# Altium schematic symbol library kmilo17pet-LT_OpAmp_LT2000.SchLib: 1710 symbols (part 52 of 75)
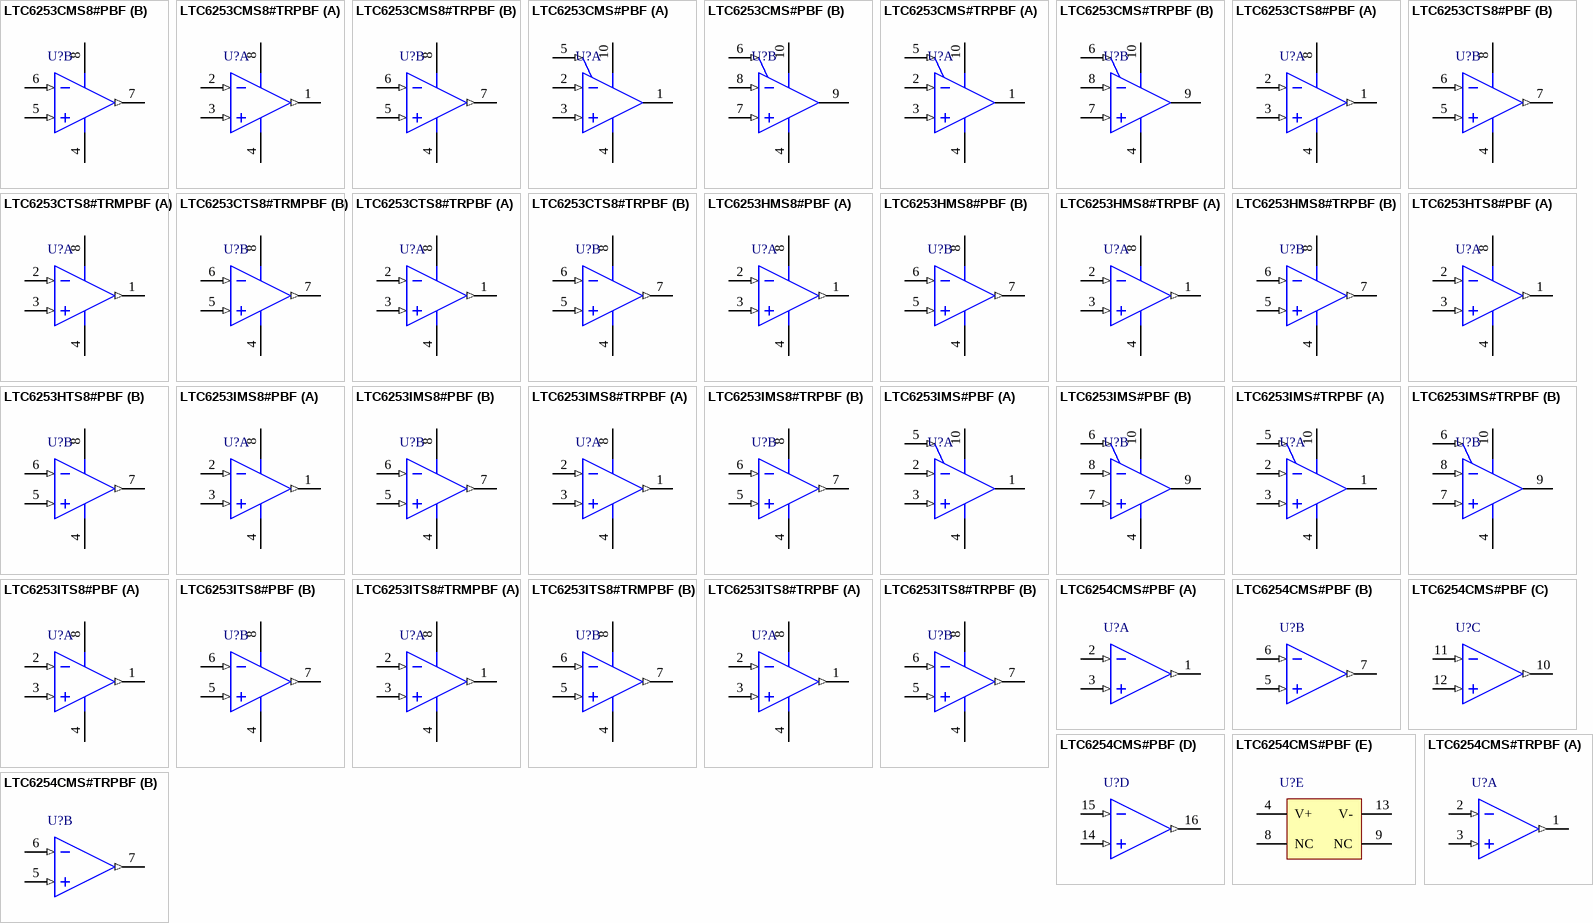
[diagram p131: symbols LTC6253CMS8#PBF to LTC6254CMS#TRPBF]

## LTC6253CMS#TRPBF
designator U?
Dual Channel, Power Efficient Operational Amplifier, RRIO, 720 MHz Typical GBW, 280 V/us Typical SR, 2.5 to 5.25 V, 10-Pin SOP (MS-10), Commercial, Pb-Free, Reel; Linear Technology Part Number: LTC6253; Manufacturer: Linear Technology; PartNumber: LTC6253CMS#TRPBF; Channels (#): 2; GBW (MHz) Typical: 720; Is (mA) Typical: 3.3; SR (V/us) Typical: 280; Vos (mV) Typical: 0.05; Vs Max (V): 5.25; Vs Min (V): 2.5; DatasheetVersion: Rev. C; PackageVersion: Rev E; PackageReference: LT-MS-10; PackageDescription: 10-Lead Plastic MSOP, Body 3 x 3 mm, Pitch 0.5 mm; Supplier 1: Digi-Key; Supplier Part Number 1: LTC6253CMS#TRPBF-ND; Packing: Reel; RoHS: Pb-Free; Type: VFB; Mounting Technology: Surface Mount; ComponentLink1Description: Manufacturer URL; ComponentLink1URL: http://www.linear.com/; ComponentLink2Description: Datasheet; ComponentLink2URL: http://cds.linear.com/docs/en/datasheet/625234fc.pdf; ComponentLink3Description: Package Specification; ComponentLink3URL: http://cds.linear.com/docs/en/packaging/MSOP_10_05-08-1661.pdf
footprint LT-MS-10_N (SOP, 10-Leads, Body 3x3mm, Pitch 0.50mm, IPC Medium Density)
footprint LT-MS-10_L (SOP, 10-Leads, Body 3x3mm, Pitch 0.50mm, IPC High Density)
footprint LT-MS-10_M (SOP, 10-Leads, Body 3x3mm, Pitch 0.50mm, IPC Low Density)
pins on every part: 4 V- (power) "Negative Supply Voltage. Typically 0V. This can be made a negative voltage as long as 2.5V =< (V+ - V-) =< 5.25V.", 10 V+ (power) "Positive Supply Voltage. Total supply voltage ranges from 2.5V to 5.25V"
part A pins: 1 OUT A (hiz) "Amplifier Output. Swings rail-to-rail and can typically source/sink over 90mA of current at a total supply of 5V.", 2 -IN A (in) "Inverting Input of Amplifier. Input range from V- to V+.", 3 +IN A (in) "Non-Inverting Input of Amplifier. Input range from V- to V+.", 5 ~{SHDNA} (in) "Active Low Shutdown. Threshold is typically 1.1V referenced to V-. Floating this pin will turn the part on."
part B pins: 6 ~{SHDNB} (in) "Active Low Shutdown. Threshold is typically 1.1V referenced to V-. Floating this pin will turn the part on.", 7 +IN B (in) "Non-Inverting Input of Amplifier. Input range from V- to V+.", 8 -IN B (in) "Inverting Input of Amplifier. Input range from V- to V+.", 9 OUT B (hiz) "Amplifier Output. Swings rail-to-rail and can typically source/sink over 90mA of current at a total supply of 5V."

## LTC6253CTS8#PBF
designator U?
Dual Channel, Power Efficient Operational Amplifier, RRIO, 720 MHz Typical GBW, 280 V/us Typical SR, 2.5 to 5.25 V, 8-Pin SOP (TS8-8), Commercial, Pb-Free; Linear Technology Part Number: LTC6253; Manufacturer: Linear Technology; PartNumber: LTC6253CTS8#PBF; Channels (#): 2; GBW (MHz) Typical: 720; Is (mA) Typical: 3.3; SR (V/us) Typical: 280; Vos (mV) Typical: 0.05; Vs Max (V): 5.25; Vs Min (V): 2.5; DatasheetVersion: Rev. C; PackageVersion: Rev A; PackageReference: LT-TS8-8-TSOT-23; PackageDescription: 8-Lead Plastic TSOT-23, Body 2.9 x 1.63 mm, Pitch 0.65 mm; RoHS: Pb-Free; Type: VFB; Mounting Technology: Surface Mount; Code_JEDEC: MO-193; ComponentLink1Description: Manufacturer URL; ComponentLink1URL: http://www.linear.com/; ComponentLink2Description: Datasheet; ComponentLink2URL: http://cds.linear.com/docs/en/datasheet/625234fc.pdf; ComponentLink3Description: Package Specification; ComponentLink3URL: http://cds.linear.com/docs/en/packaging/SOT_8_05-08-1637.pdf
footprint LT-TS8-8-TSOT-23_V (SOT23, 8-Leads, Body 2.90x1.63mm, Pitch 0.65mm, IPC High Density, Recommended)
pins on every part: 4 V- (power), 8 V+ (power)
part A pins: 1 OUT A (out), 2 -IN A (in), 3 +IN A (in)
part B pins: 5 +IN B (in), 6 -IN B (in), 7 OUT B (out)

## LTC6253CTS8#TRMPBF
designator U?
Dual Channel, Power Efficient Operational Amplifier, RRIO, 720 MHz Typical GBW, 280 V/us Typical SR, 2.5 to 5.25 V, 8-Pin SOP (TS8-8), Commercial, Pb-Free, Mini Reel; Linear Technology Part Number: LTC6253; Manufacturer: Linear Technology; PartNumber: LTC6253CTS8#TRMPBF; Channels (#): 2; GBW (MHz) Typical: 720; Is (mA) Typical: 3.3; SR (V/us) Typical: 280; Vos (mV) Typical: 0.05; Vs Max (V): 5.25; Vs Min (V): 2.5; DatasheetVersion: Rev. C; PackageVersion: Rev A; PackageReference: LT-TS8-8-TSOT-23; PackageDescription: 8-Lead Plastic TSOT-23, Body 2.9 x 1.63 mm, Pitch 0.65 mm; Supplier 1: Digi-Key; Supplier Part Number 1: LTC6253CTS8#TRMPBFTR-ND; Supplier 2: Digi-Key; Supplier Part Number 2: LTC6253CTS8#TRMPBFCT-ND; Supplier 3: Digi-Key; Supplier Part Number 3: LTC6253CTS8#TRMPBFDKR-ND; Supplier 4: Farnell; Supplier Part Number 4: 1891288; Supplier 5: Newark; Supplier Part Number 5: 24T2685; Packing: Mini Reel; RoHS: Pb-Free; Type: VFB; Mounting Technology: Surface Mount; Code_JEDEC: MO-193; ComponentLink1Description: Manufacturer URL; ComponentLink1URL: http://www.linear.com/; ComponentLink2Description: Datasheet; ComponentLink2URL: http://cds.linear.com/docs/en/datasheet/625234fc.pdf; ComponentLink3Description: Package Specification; ComponentLink3URL: http://cds.linear.com/docs/en/packaging/SOT_8_05-08-1637.pdf
footprint LT-TS8-8-TSOT-23_V (SOT23, 8-Leads, Body 2.90x1.63mm, Pitch 0.65mm, IPC High Density, Recommended)
pins on every part: 4 V- (power), 8 V+ (power)
part A pins: 1 OUT A (out), 2 -IN A (in), 3 +IN A (in)
part B pins: 5 +IN B (in), 6 -IN B (in), 7 OUT B (out)

## LTC6253CTS8#TRPBF
designator U?
Dual Channel, Power Efficient Operational Amplifier, RRIO, 720 MHz Typical GBW, 280 V/us Typical SR, 2.5 to 5.25 V, 8-Pin SOP (TS8-8), Commercial, Pb-Free, Reel; Linear Technology Part Number: LTC6253; Manufacturer: Linear Technology; PartNumber: LTC6253CTS8#TRPBF; Channels (#): 2; GBW (MHz) Typical: 720; Is (mA) Typical: 3.3; SR (V/us) Typical: 280; Vos (mV) Typical: 0.05; Vs Max (V): 5.25; Vs Min (V): 2.5; DatasheetVersion: Rev. C; PackageVersion: Rev A; PackageReference: LT-TS8-8-TSOT-23; PackageDescription: 8-Lead Plastic TSOT-23, Body 2.9 x 1.63 mm, Pitch 0.65 mm; Supplier 1: Digi-Key; Supplier Part Number 1: LTC6253CTS8#TRPBF-ND; Packing: Reel; RoHS: Pb-Free; Type: VFB; Mounting Technology: Surface Mount; Code_JEDEC: MO-193; ComponentLink1Description: Manufacturer URL; ComponentLink1URL: http://www.linear.com/; ComponentLink2Description: Datasheet; ComponentLink2URL: http://cds.linear.com/docs/en/datasheet/625234fc.pdf; ComponentLink3Description: Package Specification; ComponentLink3URL: http://cds.linear.com/docs/en/packaging/SOT_8_05-08-1637.pdf
footprint LT-TS8-8-TSOT-23_V (SOT23, 8-Leads, Body 2.90x1.63mm, Pitch 0.65mm, IPC High Density, Recommended)
pins on every part: 4 V- (power), 8 V+ (power)
part A pins: 1 OUT A (out), 2 -IN A (in), 3 +IN A (in)
part B pins: 5 +IN B (in), 6 -IN B (in), 7 OUT B (out)

## LTC6253HMS8#PBF
designator U?
Dual Channel, Power Efficient Operational Amplifier, RRIO, 720 MHz Typical GBW, 280 V/us Typical SR, 2.5 to 5.25 V, 8-Pin SOP (MS8-8), High Temperature / Automotive, Pb-Free; Linear Technology Part Number: LTC6253; Manufacturer: Linear Technology; PartNumber: LTC6253HMS8#PBF; Channels (#): 2; GBW (MHz) Typical: 720; Is (mA) Typical: 3.3; SR (V/us) Typical: 280; Vos (mV) Typical: 0.05; Vs Max (V): 5.25; Vs Min (V): 2.5; DatasheetVersion: Rev. C; PackageVersion: Rev G; PackageReference: LT-MS8-8; PackageDescription: 8-Lead Plastic Small Outline, Body 3.9 x 4.9 mm, Pitch 1.27 mm; Supplier 1: Digi-Key; Supplier Part Number 1: LTC6253HMS8#PBF-ND; Supplier 2: Farnell; Supplier Part Number 2: 2009072; RoHS: Pb-Free; Type: VFB; Mounting Technology: Surface Mount; ComponentLink1Description: Manufacturer URL; ComponentLink1URL: http://www.linear.com/; ComponentLink2Description: Datasheet; ComponentLink2URL: http://cds.linear.com/docs/en/datasheet/625234fc.pdf; ComponentLink3Description: Package Specification; ComponentLink3URL: http://cds.linear.com/docs/en/packaging/05081610_G_SO8.pdf
footprint LT-MS8-8_N (SOP, 8-Leads, Body 3x3mm, Pitch 0.65mm, IPC Medium Density)
footprint LT-MS8-8_L (SOP, 8-Leads, Body 3x3mm, Pitch 0.65mm, IPC High Density)
footprint LT-MS8-8_M (SOP, 8-Leads, Body 3x3mm, Pitch 0.65mm, IPC Low Density)
pins on every part: 4 V- (power) "Negative Supply Voltage. Typically 0V. This can be made a negative voltage as long as 2.5V =< (V+ - V-) =< 5.25V.", 8 V+ (power) "Positive Supply Voltage. Total supply voltage ranges from 2.5V to 5.25V."
part A pins: 1 OUT A (out) "Amplifier Output. Swings rail-to-rail and can typically source/sink over 90mA of current at a total supply of 5V.", 2 -IN A (in) "Inverting Input of Amplifier. Input range from V- to V+.", 3 +IN A (in) "Non-Inverting Input of Amplifier. Input range from V- to V+."
part B pins: 5 +IN B (in) "Non-Inverting Input of Amplifier. Input range from V- to V+.", 6 -IN B (in) "Inverting Input of Amplifier. Input range from V- to V+.", 7 OUT B (out) "Amplifier Output. Swings rail-to-rail and can typically source/sink over 90mA of current at a total supply of 5V."

## LTC6253HMS8#TRPBF
designator U?
Dual Channel, Power Efficient Operational Amplifier, RRIO, 720 MHz Typical GBW, 280 V/us Typical SR, 2.5 to 5.25 V, 8-Pin SOP (MS8-8), High Temperature / Automotive, Pb-Free, Reel; Linear Technology Part Number: LTC6253; Manufacturer: Linear Technology; PartNumber: LTC6253HMS8#TRPBF; Channels (#): 2; GBW (MHz) Typical: 720; Is (mA) Typical: 3.3; SR (V/us) Typical: 280; Vos (mV) Typical: 0.05; Vs Max (V): 5.25; Vs Min (V): 2.5; DatasheetVersion: Rev. C; PackageVersion: Rev G; PackageReference: LT-MS8-8; PackageDescription: 8-Lead Plastic Small Outline, Body 3.9 x 4.9 mm, Pitch 1.27 mm; Supplier 1: Digi-Key; Supplier Part Number 1: LTC6253HMS8#TRPBF-ND; Packing: Reel; RoHS: Pb-Free; Type: VFB; Mounting Technology: Surface Mount; ComponentLink1Description: Manufacturer URL; ComponentLink1URL: http://www.linear.com/; ComponentLink2Description: Datasheet; ComponentLink2URL: http://cds.linear.com/docs/en/datasheet/625234fc.pdf; ComponentLink3Description: Package Specification; ComponentLink3URL: http://cds.linear.com/docs/en/packaging/05081610_G_SO8.pdf
footprint LT-MS8-8_N (SOP, 8-Leads, Body 3x3mm, Pitch 0.65mm, IPC Medium Density)
footprint LT-MS8-8_L (SOP, 8-Leads, Body 3x3mm, Pitch 0.65mm, IPC High Density)
footprint LT-MS8-8_M (SOP, 8-Leads, Body 3x3mm, Pitch 0.65mm, IPC Low Density)
pins on every part: 4 V- (power) "Negative Supply Voltage. Typically 0V. This can be made a negative voltage as long as 2.5V =< (V+ - V-) =< 5.25V.", 8 V+ (power) "Positive Supply Voltage. Total supply voltage ranges from 2.5V to 5.25V."
part A pins: 1 OUT A (out) "Amplifier Output. Swings rail-to-rail and can typically source/sink over 90mA of current at a total supply of 5V.", 2 -IN A (in) "Inverting Input of Amplifier. Input range from V- to V+.", 3 +IN A (in) "Non-Inverting Input of Amplifier. Input range from V- to V+."
part B pins: 5 +IN B (in) "Non-Inverting Input of Amplifier. Input range from V- to V+.", 6 -IN B (in) "Inverting Input of Amplifier. Input range from V- to V+.", 7 OUT B (out) "Amplifier Output. Swings rail-to-rail and can typically source/sink over 90mA of current at a total supply of 5V."

## LTC6253HTS8#PBF
designator U?
Dual Channel, Power Efficient Operational Amplifier, RRIO, 720 MHz Typical GBW, 280 V/us Typical SR, 2.5 to 5.25 V, 8-Pin SOP (TS8-8), High Temperature / Automotive, Pb-Free; Linear Technology Part Number: LTC6253; Manufacturer: Linear Technology; PartNumber: LTC6253HTS8#PBF; Channels (#): 2; GBW (MHz) Typical: 720; Is (mA) Typical: 3.3; SR (V/us) Typical: 280; Vos (mV) Typical: 0.05; Vs Max (V): 5.25; Vs Min (V): 2.5; DatasheetVersion: Rev. C; PackageVersion: Rev A; PackageReference: LT-TS8-8-TSOT-23; PackageDescription: 8-Lead Plastic TSOT-23, Body 2.9 x 1.63 mm, Pitch 0.65 mm; RoHS: Pb-Free; Type: VFB; Mounting Technology: Surface Mount; Code_JEDEC: MO-193; ComponentLink1Description: Manufacturer URL; ComponentLink1URL: http://www.linear.com/; ComponentLink2Description: Datasheet; ComponentLink2URL: http://cds.linear.com/docs/en/datasheet/625234fc.pdf; ComponentLink3Description: Package Specification; ComponentLink3URL: http://cds.linear.com/docs/en/packaging/SOT_8_05-08-1637.pdf
footprint LT-TS8-8-TSOT-23_V (SOT23, 8-Leads, Body 2.90x1.63mm, Pitch 0.65mm, IPC High Density, Recommended)
pins on every part: 4 V- (power), 8 V+ (power)
part A pins: 1 OUT A (out), 2 -IN A (in), 3 +IN A (in)
part B pins: 5 +IN B (in), 6 -IN B (in), 7 OUT B (out)

## LTC6253IMS8#PBF
designator U?
Dual Channel, Power Efficient Operational Amplifier, RRIO, 720 MHz Typical GBW, 280 V/us Typical SR, 2.5 to 5.25 V, 8-Pin SOP (MS8-8), Industrial, Pb-Free; Linear Technology Part Number: LTC6253; Manufacturer: Linear Technology; PartNumber: LTC6253IMS8#PBF; Channels (#): 2; GBW (MHz) Typical: 720; Is (mA) Typical: 3.3; SR (V/us) Typical: 280; Vos (mV) Typical: 0.05; Vs Max (V): 5.25; Vs Min (V): 2.5; DatasheetVersion: Rev. C; PackageVersion: Rev G; PackageReference: LT-MS8-8; PackageDescription: 8-Lead Plastic Small Outline, Body 3.9 x 4.9 mm, Pitch 1.27 mm; Supplier 1: Digi-Key; Supplier Part Number 1: LTC6253IMS8#PBF-ND; Supplier 2: Newark; Supplier Part Number 2: 13T4062; RoHS: Pb-Free; Type: VFB; Mounting Technology: Surface Mount; ComponentLink1Description: Manufacturer URL; ComponentLink1URL: http://www.linear.com/; ComponentLink2Description: Datasheet; ComponentLink2URL: http://cds.linear.com/docs/en/datasheet/625234fc.pdf; ComponentLink3Description: Package Specification; ComponentLink3URL: http://cds.linear.com/docs/en/packaging/05081610_G_SO8.pdf
footprint LT-MS8-8_N (SOP, 8-Leads, Body 3x3mm, Pitch 0.65mm, IPC Medium Density)
footprint LT-MS8-8_L (SOP, 8-Leads, Body 3x3mm, Pitch 0.65mm, IPC High Density)
footprint LT-MS8-8_M (SOP, 8-Leads, Body 3x3mm, Pitch 0.65mm, IPC Low Density)
pins on every part: 4 V- (power) "Negative Supply Voltage. Typically 0V. This can be made a negative voltage as long as 2.5V =< (V+ - V-) =< 5.25V.", 8 V+ (power) "Positive Supply Voltage. Total supply voltage ranges from 2.5V to 5.25V."
part A pins: 1 OUT A (out) "Amplifier Output. Swings rail-to-rail and can typically source/sink over 90mA of current at a total supply of 5V.", 2 -IN A (in) "Inverting Input of Amplifier. Input range from V- to V+.", 3 +IN A (in) "Non-Inverting Input of Amplifier. Input range from V- to V+."
part B pins: 5 +IN B (in) "Non-Inverting Input of Amplifier. Input range from V- to V+.", 6 -IN B (in) "Inverting Input of Amplifier. Input range from V- to V+.", 7 OUT B (out) "Amplifier Output. Swings rail-to-rail and can typically source/sink over 90mA of current at a total supply of 5V."

## LTC6253IMS8#TRPBF
designator U?
Dual Channel, Power Efficient Operational Amplifier, RRIO, 720 MHz Typical GBW, 280 V/us Typical SR, 2.5 to 5.25 V, 8-Pin SOP (MS8-8), Industrial, Pb-Free, Reel; Linear Technology Part Number: LTC6253; Manufacturer: Linear Technology; PartNumber: LTC6253IMS8#TRPBF; Channels (#): 2; GBW (MHz) Typical: 720; Is (mA) Typical: 3.3; SR (V/us) Typical: 280; Vos (mV) Typical: 0.05; Vs Max (V): 5.25; Vs Min (V): 2.5; DatasheetVersion: Rev. C; PackageVersion: Rev G; PackageReference: LT-MS8-8; PackageDescription: 8-Lead Plastic Small Outline, Body 3.9 x 4.9 mm, Pitch 1.27 mm; Supplier 1: Digi-Key; Supplier Part Number 1: LTC6253IMS8#TRPBF-ND; Packing: Reel; RoHS: Pb-Free; Type: VFB; Mounting Technology: Surface Mount; ComponentLink1Description: Manufacturer URL; ComponentLink1URL: http://www.linear.com/; ComponentLink2Description: Datasheet; ComponentLink2URL: http://cds.linear.com/docs/en/datasheet/625234fc.pdf; ComponentLink3Description: Package Specification; ComponentLink3URL: http://cds.linear.com/docs/en/packaging/05081610_G_SO8.pdf
footprint LT-MS8-8_N (SOP, 8-Leads, Body 3x3mm, Pitch 0.65mm, IPC Medium Density)
footprint LT-MS8-8_L (SOP, 8-Leads, Body 3x3mm, Pitch 0.65mm, IPC High Density)
footprint LT-MS8-8_M (SOP, 8-Leads, Body 3x3mm, Pitch 0.65mm, IPC Low Density)
pins on every part: 4 V- (power) "Negative Supply Voltage. Typically 0V. This can be made a negative voltage as long as 2.5V =< (V+ - V-) =< 5.25V.", 8 V+ (power) "Positive Supply Voltage. Total supply voltage ranges from 2.5V to 5.25V."
part A pins: 1 OUT A (out) "Amplifier Output. Swings rail-to-rail and can typically source/sink over 90mA of current at a total supply of 5V.", 2 -IN A (in) "Inverting Input of Amplifier. Input range from V- to V+.", 3 +IN A (in) "Non-Inverting Input of Amplifier. Input range from V- to V+."
part B pins: 5 +IN B (in) "Non-Inverting Input of Amplifier. Input range from V- to V+.", 6 -IN B (in) "Inverting Input of Amplifier. Input range from V- to V+.", 7 OUT B (out) "Amplifier Output. Swings rail-to-rail and can typically source/sink over 90mA of current at a total supply of 5V."

## LTC6253IMS#PBF
designator U?
Dual Channel, Power Efficient Operational Amplifier, RRIO, 720 MHz Typical GBW, 280 V/us Typical SR, 2.5 to 5.25 V, 10-Pin SOP (MS-10), Industrial, Pb-Free; Linear Technology Part Number: LTC6253; Manufacturer: Linear Technology; PartNumber: LTC6253IMS#PBF; Channels (#): 2; GBW (MHz) Typical: 720; Is (mA) Typical: 3.3; SR (V/us) Typical: 280; Vos (mV) Typical: 0.05; Vs Max (V): 5.25; Vs Min (V): 2.5; DatasheetVersion: Rev. C; PackageVersion: Rev E; PackageReference: LT-MS-10; PackageDescription: 10-Lead Plastic MSOP, Body 3 x 3 mm, Pitch 0.5 mm; Supplier 1: Digi-Key; Supplier Part Number 1: LTC6253IMS#PBF-ND; RoHS: Pb-Free; Type: VFB; Mounting Technology: Surface Mount; ComponentLink1Description: Manufacturer URL; ComponentLink1URL: http://www.linear.com/; ComponentLink2Description: Datasheet; ComponentLink2URL: http://cds.linear.com/docs/en/datasheet/625234fc.pdf; ComponentLink3Description: Package Specification; ComponentLink3URL: http://cds.linear.com/docs/en/packaging/MSOP_10_05-08-1661.pdf
footprint LT-MS-10_N (SOP, 10-Leads, Body 3x3mm, Pitch 0.50mm, IPC Medium Density)
footprint LT-MS-10_L (SOP, 10-Leads, Body 3x3mm, Pitch 0.50mm, IPC High Density)
footprint LT-MS-10_M (SOP, 10-Leads, Body 3x3mm, Pitch 0.50mm, IPC Low Density)
pins on every part: 4 V- (power) "Negative Supply Voltage. Typically 0V. This can be made a negative voltage as long as 2.5V =< (V+ - V-) =< 5.25V.", 10 V+ (power) "Positive Supply Voltage. Total supply voltage ranges from 2.5V to 5.25V"
part A pins: 1 OUT A (hiz) "Amplifier Output. Swings rail-to-rail and can typically source/sink over 90mA of current at a total supply of 5V.", 2 -IN A (in) "Inverting Input of Amplifier. Input range from V- to V+.", 3 +IN A (in) "Non-Inverting Input of Amplifier. Input range from V- to V+.", 5 ~{SHDNA} (in) "Active Low Shutdown. Threshold is typically 1.1V referenced to V-. Floating this pin will turn the part on."
part B pins: 6 ~{SHDNB} (in) "Active Low Shutdown. Threshold is typically 1.1V referenced to V-. Floating this pin will turn the part on.", 7 +IN B (in) "Non-Inverting Input of Amplifier. Input range from V- to V+.", 8 -IN B (in) "Inverting Input of Amplifier. Input range from V- to V+.", 9 OUT B (hiz) "Amplifier Output. Swings rail-to-rail and can typically source/sink over 90mA of current at a total supply of 5V."

## LTC6253IMS#TRPBF
designator U?
Dual Channel, Power Efficient Operational Amplifier, RRIO, 720 MHz Typical GBW, 280 V/us Typical SR, 2.5 to 5.25 V, 10-Pin SOP (MS-10), Industrial, Pb-Free, Reel; Linear Technology Part Number: LTC6253; Manufacturer: Linear Technology; PartNumber: LTC6253IMS#TRPBF; Channels (#): 2; GBW (MHz) Typical: 720; Is (mA) Typical: 3.3; SR (V/us) Typical: 280; Vos (mV) Typical: 0.05; Vs Max (V): 5.25; Vs Min (V): 2.5; DatasheetVersion: Rev. C; PackageVersion: Rev E; PackageReference: LT-MS-10; PackageDescription: 10-Lead Plastic MSOP, Body 3 x 3 mm, Pitch 0.5 mm; Supplier 1: Digi-Key; Supplier Part Number 1: LTC6253IMS#TRPBF-ND; Supplier 2: Newark; Supplier Part Number 2: 13T4061; Packing: Reel; RoHS: Pb-Free; Type: VFB; Mounting Technology: Surface Mount; ComponentLink1Description: Manufacturer URL; ComponentLink1URL: http://www.linear.com/; ComponentLink2Description: Datasheet; ComponentLink2URL: http://cds.linear.com/docs/en/datasheet/625234fc.pdf; ComponentLink3Description: Package Specification; ComponentLink3URL: http://cds.linear.com/docs/en/packaging/MSOP_10_05-08-1661.pdf
footprint LT-MS-10_N (SOP, 10-Leads, Body 3x3mm, Pitch 0.50mm, IPC Medium Density)
footprint LT-MS-10_L (SOP, 10-Leads, Body 3x3mm, Pitch 0.50mm, IPC High Density)
footprint LT-MS-10_M (SOP, 10-Leads, Body 3x3mm, Pitch 0.50mm, IPC Low Density)
pins on every part: 4 V- (power) "Negative Supply Voltage. Typically 0V. This can be made a negative voltage as long as 2.5V =< (V+ - V-) =< 5.25V.", 10 V+ (power) "Positive Supply Voltage. Total supply voltage ranges from 2.5V to 5.25V"
part A pins: 1 OUT A (hiz) "Amplifier Output. Swings rail-to-rail and can typically source/sink over 90mA of current at a total supply of 5V.", 2 -IN A (in) "Inverting Input of Amplifier. Input range from V- to V+.", 3 +IN A (in) "Non-Inverting Input of Amplifier. Input range from V- to V+.", 5 ~{SHDNA} (in) "Active Low Shutdown. Threshold is typically 1.1V referenced to V-. Floating this pin will turn the part on."
part B pins: 6 ~{SHDNB} (in) "Active Low Shutdown. Threshold is typically 1.1V referenced to V-. Floating this pin will turn the part on.", 7 +IN B (in) "Non-Inverting Input of Amplifier. Input range from V- to V+.", 8 -IN B (in) "Inverting Input of Amplifier. Input range from V- to V+.", 9 OUT B (hiz) "Amplifier Output. Swings rail-to-rail and can typically source/sink over 90mA of current at a total supply of 5V."

## LTC6253ITS8#PBF
designator U?
Dual Channel, Power Efficient Operational Amplifier, RRIO, 720 MHz Typical GBW, 280 V/us Typical SR, 2.5 to 5.25 V, 8-Pin SOP (TS8-8), Industrial, Pb-Free; Linear Technology Part Number: LTC6253; Manufacturer: Linear Technology; PartNumber: LTC6253ITS8#PBF; Channels (#): 2; GBW (MHz) Typical: 720; Is (mA) Typical: 3.3; SR (V/us) Typical: 280; Vos (mV) Typical: 0.05; Vs Max (V): 5.25; Vs Min (V): 2.5; DatasheetVersion: Rev. C; PackageVersion: Rev A; PackageReference: LT-TS8-8-TSOT-23; PackageDescription: 8-Lead Plastic TSOT-23, Body 2.9 x 1.63 mm, Pitch 0.65 mm; Supplier 1: Newark; Supplier Part Number 1: 78T3471; RoHS: Pb-Free; Type: VFB; Mounting Technology: Surface Mount; Code_JEDEC: MO-193; ComponentLink1Description: Manufacturer URL; ComponentLink1URL: http://www.linear.com/; ComponentLink2Description: Datasheet; ComponentLink2URL: http://cds.linear.com/docs/en/datasheet/625234fc.pdf; ComponentLink3Description: Package Specification; ComponentLink3URL: http://cds.linear.com/docs/en/packaging/SOT_8_05-08-1637.pdf
footprint LT-TS8-8-TSOT-23_V (SOT23, 8-Leads, Body 2.90x1.63mm, Pitch 0.65mm, IPC High Density, Recommended)
pins on every part: 4 V- (power), 8 V+ (power)
part A pins: 1 OUT A (out), 2 -IN A (in), 3 +IN A (in)
part B pins: 5 +IN B (in), 6 -IN B (in), 7 OUT B (out)

## LTC6253ITS8#TRMPBF
designator U?
Dual Channel, Power Efficient Operational Amplifier, RRIO, 720 MHz Typical GBW, 280 V/us Typical SR, 2.5 to 5.25 V, 8-Pin SOP (TS8-8), Industrial, Pb-Free, Mini Reel; Linear Technology Part Number: LTC6253; Manufacturer: Linear Technology; PartNumber: LTC6253ITS8#TRMPBF; Channels (#): 2; GBW (MHz) Typical: 720; Is (mA) Typical: 3.3; SR (V/us) Typical: 280; Vos (mV) Typical: 0.05; Vs Max (V): 5.25; Vs Min (V): 2.5; DatasheetVersion: Rev. C; PackageVersion: Rev A; PackageReference: LT-TS8-8-TSOT-23; PackageDescription: 8-Lead Plastic TSOT-23, Body 2.9 x 1.63 mm, Pitch 0.65 mm; Supplier 1: Digi-Key; Supplier Part Number 1: LTC6253ITS8#TRMPBF-ND; Supplier 2: Newark; Supplier Part Number 2: 13T4064; Packing: Mini Reel; RoHS: Pb-Free; Type: VFB; Mounting Technology: Surface Mount; Code_JEDEC: MO-193; ComponentLink1Description: Manufacturer URL; ComponentLink1URL: http://www.linear.com/; ComponentLink2Description: Datasheet; ComponentLink2URL: http://cds.linear.com/docs/en/datasheet/625234fc.pdf; ComponentLink3Description: Package Specification; ComponentLink3URL: http://cds.linear.com/docs/en/packaging/SOT_8_05-08-1637.pdf
footprint LT-TS8-8-TSOT-23_V (SOT23, 8-Leads, Body 2.90x1.63mm, Pitch 0.65mm, IPC High Density, Recommended)
pins on every part: 4 V- (power), 8 V+ (power)
part A pins: 1 OUT A (out), 2 -IN A (in), 3 +IN A (in)
part B pins: 5 +IN B (in), 6 -IN B (in), 7 OUT B (out)

## LTC6253ITS8#TRPBF
designator U?
Dual Channel, Power Efficient Operational Amplifier, RRIO, 720 MHz Typical GBW, 280 V/us Typical SR, 2.5 to 5.25 V, 8-Pin SOP (TS8-8), Industrial, Pb-Free, Reel; Linear Technology Part Number: LTC6253; Manufacturer: Linear Technology; PartNumber: LTC6253ITS8#TRPBF; Channels (#): 2; GBW (MHz) Typical: 720; Is (mA) Typical: 3.3; SR (V/us) Typical: 280; Vos (mV) Typical: 0.05; Vs Max (V): 5.25; Vs Min (V): 2.5; DatasheetVersion: Rev. C; PackageVersion: Rev A; PackageReference: LT-TS8-8-TSOT-23; PackageDescription: 8-Lead Plastic TSOT-23, Body 2.9 x 1.63 mm, Pitch 0.65 mm; Supplier 1: Digi-Key; Supplier Part Number 1: LTC6253ITS8#TRPBF-ND; Supplier 2: Newark; Supplier Part Number 2: 13T4065; Packing: Reel; RoHS: Pb-Free; Type: VFB; Mounting Technology: Surface Mount; Code_JEDEC: MO-193; ComponentLink1Description: Manufacturer URL; ComponentLink1URL: http://www.linear.com/; ComponentLink2Description: Datasheet; ComponentLink2URL: http://cds.linear.com/docs/en/datasheet/625234fc.pdf; ComponentLink3Description: Package Specification; ComponentLink3URL: http://cds.linear.com/docs/en/packaging/SOT_8_05-08-1637.pdf
footprint LT-TS8-8-TSOT-23_V (SOT23, 8-Leads, Body 2.90x1.63mm, Pitch 0.65mm, IPC High Density, Recommended)
pins on every part: 4 V- (power), 8 V+ (power)
part A pins: 1 OUT A (out), 2 -IN A (in), 3 +IN A (in)
part B pins: 5 +IN B (in), 6 -IN B (in), 7 OUT B (out)

## LTC6254CMS#PBF
designator U?
Quad Channel, Power Efficient Operational Amplifier, RRIO, 720 MHz Typical GBW, 280 V/us Typical SR, 2.5 to 5.25 V, 16-Pin SOP (MS16), Commercial, Pb-Free; Linear Technology Part Number: LTC6254; Manufacturer: Linear Technology; PartNumber: LTC6254CMS#PBF; Channels (#): 4; GBW (MHz) Typical: 720; Is (mA) Typical: 3.3; SR (V/us) Typical: 280; Vos (mV) Typical: 0.05; Vs Max (V): 5.25; Vs Min (V): 2.5; DatasheetVersion: Rev. C; PackageVersion: Rev Ø; PackageReference: LT-MS-16; PackageDescription: 16-Lead Plastic MSOP, Body 4.04 x 3.00 mm, Pitch 0.50 mm; Supplier 1: Digi-Key; Supplier Part Number 1: LTC6254CMS#PBF-ND; Supplier 2: Farnell; Supplier Part Number 2: 1868067; Supplier 3: Newark; Supplier Part Number 3: 13T4066; RoHS: Pb-Free; Type: VFB; Mounting Technology: Surface Mount; ComponentLink1Description: Manufacturer URL; ComponentLink1URL: http://www.linear.com/; ComponentLink2Description: Datasheet; ComponentLink2URL: http://cds.linear.com/docs/en/datasheet/625234fc.pdf; ComponentLink3Description: Package Specification; ComponentLink3URL: http://cds.linear.com/docs/en/packaging/MSOP_16_05-08-1669.pdf
footprint LT-MS-16_N (SOP, 16-Leads, Body 4.04x3.00mm, Pitch 0.50mm, IPC Medium Density)
footprint LT-MS-16_L (SOP, 16-Leads, Body 4.04x3.00mm, Pitch 0.50mm, IPC High Density)
footprint LT-MS-16_M (SOP, 16-Leads, Body 4.04x3.00mm, Pitch 0.50mm, IPC Low Density)
part A pins: 1 OUT A (out) "Amplifier Output. Swings rail-to-rail and can typically source/sink over 90mA of current at a total supply of 5V.", 2 -IN A (in) "Inverting Input of Amplifier. Input range from V- to V+.", 3 +IN A (in) "Non-Inverting Input of Amplifier. Input range from V- to V+."
part B pins: 5 +IN B (in) "Non-Inverting Input of Amplifier. Input range from V- to V+.", 6 -IN B (in) "Inverting Input of Amplifier. Input range from V- to V+.", 7 OUT B (out) "Amplifier Output. Swings rail-to-rail and can typically source/sink over 90mA of current at a total supply of 5V."
part C pins: 10 OUT C (out) "Amplifier Output. Swings rail-to-rail and can typically source/sink over 90mA of current at a total supply of 5V.", 11 -IN C (in) "Inverting Input of Amplifier. Input range from V- to V+.", 12 +IN C (in) "Non-Inverting Input of Amplifier. Input range from V- to V+."
part D pins: 14 +IN D (in) "Non-Inverting Input of Amplifier. Input range from V- to V+.", 15 -IN D (in) "Inverting Input of Amplifier. Input range from V- to V+.", 16 OUT D (out) "Amplifier Output. Swings rail-to-rail and can typically source/sink over 90mA of current at a total supply of 5V."
part E pins: 4 V+ (power) "Positive Supply Voltage. Total supply voltage ranges from 2.5V to 5.25V.", 8 NC, 9 NC, 13 V- (power) "Negative Supply Voltage. Typically 0V. This can be made a negative voltage as long as 2.5V =< (V+ - V-) =< 5.25V."

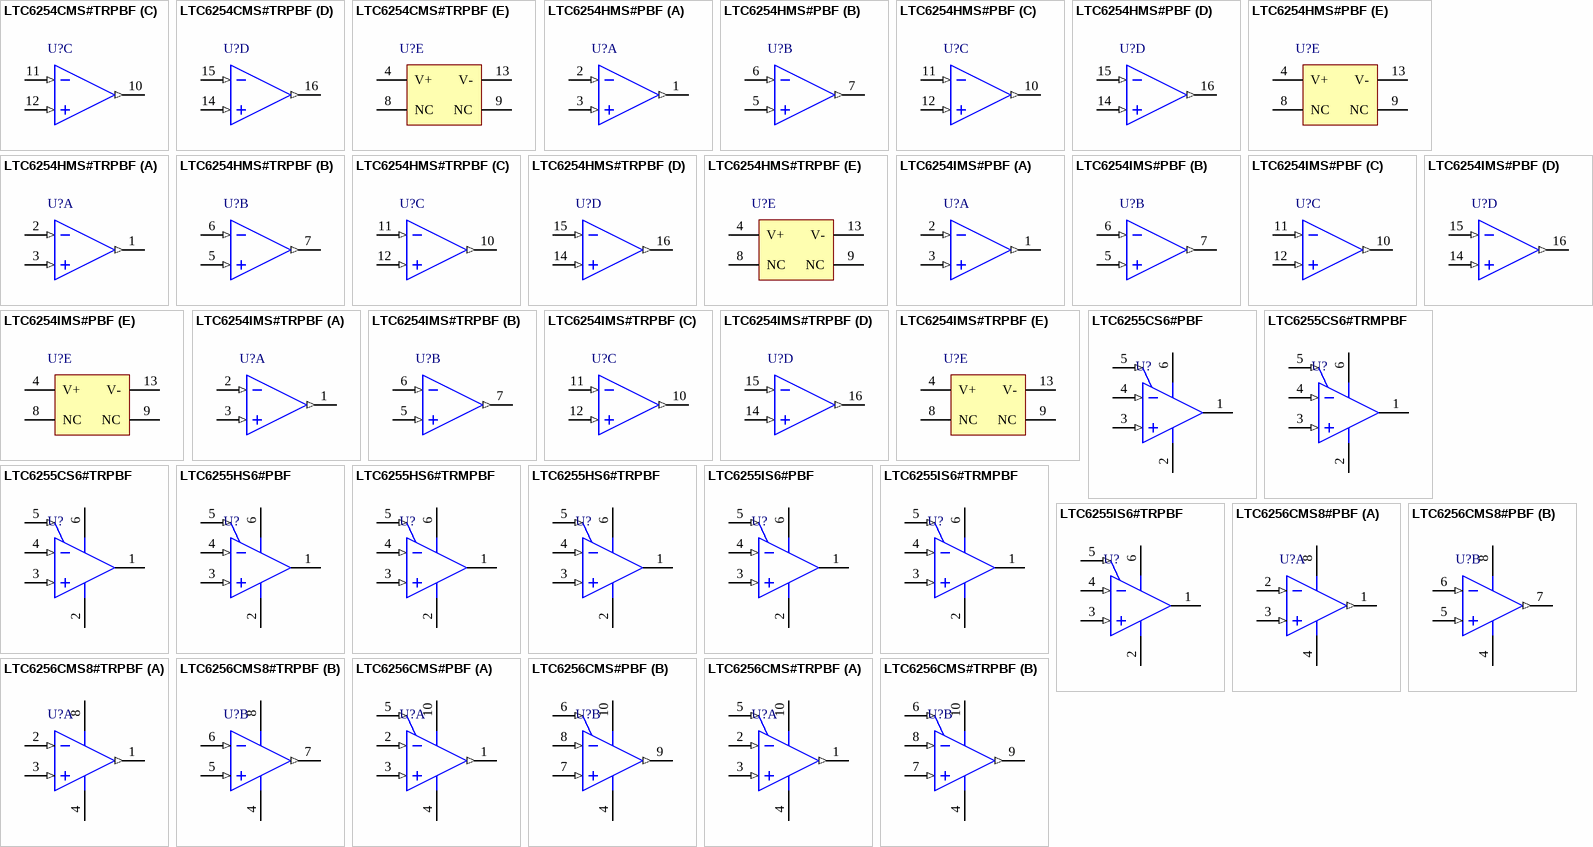
[diagram p69: symbols LTC6254CMS#TRPBF to LTC6256CMS#TRPBF]

## LTC6254CMS#TRPBF
designator U?
Quad Channel, Power Efficient Operational Amplifier, RRIO, 720 MHz Typical GBW, 280 V/us Typical SR, 2.5 to 5.25 V, 16-Pin SOP (MS16), Commercial, Pb-Free, Reel; Linear Technology Part Number: LTC6254; Manufacturer: Linear Technology; PartNumber: LTC6254CMS#TRPBF; Channels (#): 4; GBW (MHz) Typical: 720; Is (mA) Typical: 3.3; SR (V/us) Typical: 280; Vos (mV) Typical: 0.05; Vs Max (V): 5.25; Vs Min (V): 2.5; DatasheetVersion: Rev. C; PackageVersion: Rev Ø; PackageReference: LT-MS-16; PackageDescription: 16-Lead Plastic MSOP, Body 4.04 x 3.00 mm, Pitch 0.50 mm; Supplier 1: Digi-Key; Supplier Part Number 1: LTC6254CMS#TRPBF-ND; Packing: Reel; RoHS: Pb-Free; Type: VFB; Mounting Technology: Surface Mount; ComponentLink1Description: Manufacturer URL; ComponentLink1URL: http://www.linear.com/; ComponentLink2Description: Datasheet; ComponentLink2URL: http://cds.linear.com/docs/en/datasheet/625234fc.pdf; ComponentLink3Description: Package Specification; ComponentLink3URL: http://cds.linear.com/docs/en/packaging/MSOP_16_05-08-1669.pdf
footprint LT-MS-16_N (SOP, 16-Leads, Body 4.04x3.00mm, Pitch 0.50mm, IPC Medium Density)
footprint LT-MS-16_L (SOP, 16-Leads, Body 4.04x3.00mm, Pitch 0.50mm, IPC High Density)
footprint LT-MS-16_M (SOP, 16-Leads, Body 4.04x3.00mm, Pitch 0.50mm, IPC Low Density)
part A pins: 1 OUT A (out) "Amplifier Output. Swings rail-to-rail and can typically source/sink over 90mA of current at a total supply of 5V.", 2 -IN A (in) "Inverting Input of Amplifier. Input range from V- to V+.", 3 +IN A (in) "Non-Inverting Input of Amplifier. Input range from V- to V+."
part B pins: 5 +IN B (in) "Non-Inverting Input of Amplifier. Input range from V- to V+.", 6 -IN B (in) "Inverting Input of Amplifier. Input range from V- to V+.", 7 OUT B (out) "Amplifier Output. Swings rail-to-rail and can typically source/sink over 90mA of current at a total supply of 5V."
part C pins: 10 OUT C (out) "Amplifier Output. Swings rail-to-rail and can typically source/sink over 90mA of current at a total supply of 5V.", 11 -IN C (in) "Inverting Input of Amplifier. Input range from V- to V+.", 12 +IN C (in) "Non-Inverting Input of Amplifier. Input range from V- to V+."
part D pins: 14 +IN D (in) "Non-Inverting Input of Amplifier. Input range from V- to V+.", 15 -IN D (in) "Inverting Input of Amplifier. Input range from V- to V+.", 16 OUT D (out) "Amplifier Output. Swings rail-to-rail and can typically source/sink over 90mA of current at a total supply of 5V."
part E pins: 4 V+ (power) "Positive Supply Voltage. Total supply voltage ranges from 2.5V to 5.25V.", 8 NC, 9 NC, 13 V- (power) "Negative Supply Voltage. Typically 0V. This can be made a negative voltage as long as 2.5V =< (V+ - V-) =< 5.25V."

## LTC6254HMS#PBF
designator U?
Quad Channel, Power Efficient Operational Amplifier, RRIO, 720 MHz Typical GBW, 280 V/us Typical SR, 2.5 to 5.25 V, 16-Pin SOP (MS16), High Temperature / Automotive, Pb-Free; Linear Technology Part Number: LTC6254; Manufacturer: Linear Technology; PartNumber: LTC6254HMS#PBF; Channels (#): 4; GBW (MHz) Typical: 720; Is (mA) Typical: 3.3; SR (V/us) Typical: 280; Vos (mV) Typical: 0.05; Vs Max (V): 5.25; Vs Min (V): 2.5; DatasheetVersion: Rev. C; PackageVersion: Rev Ø; PackageReference: LT-MS-16; PackageDescription: 16-Lead Plastic MSOP, Body 4.04 x 3.00 mm, Pitch 0.50 mm; Supplier 1: Digi-Key; Supplier Part Number 1: LTC6254HMS#PBF-ND; Supplier 2: Newark; Supplier Part Number 2: 13T4068; RoHS: Pb-Free; Type: VFB; Mounting Technology: Surface Mount; ComponentLink1Description: Manufacturer URL; ComponentLink1URL: http://www.linear.com/; ComponentLink2Description: Datasheet; ComponentLink2URL: http://cds.linear.com/docs/en/datasheet/625234fc.pdf; ComponentLink3Description: Package Specification; ComponentLink3URL: http://cds.linear.com/docs/en/packaging/MSOP_16_05-08-1669.pdf
footprint LT-MS-16_N (SOP, 16-Leads, Body 4.04x3.00mm, Pitch 0.50mm, IPC Medium Density)
footprint LT-MS-16_L (SOP, 16-Leads, Body 4.04x3.00mm, Pitch 0.50mm, IPC High Density)
footprint LT-MS-16_M (SOP, 16-Leads, Body 4.04x3.00mm, Pitch 0.50mm, IPC Low Density)
part A pins: 1 OUT A (out) "Amplifier Output. Swings rail-to-rail and can typically source/sink over 90mA of current at a total supply of 5V.", 2 -IN A (in) "Inverting Input of Amplifier. Input range from V- to V+.", 3 +IN A (in) "Non-Inverting Input of Amplifier. Input range from V- to V+."
part B pins: 5 +IN B (in) "Non-Inverting Input of Amplifier. Input range from V- to V+.", 6 -IN B (in) "Inverting Input of Amplifier. Input range from V- to V+.", 7 OUT B (out) "Amplifier Output. Swings rail-to-rail and can typically source/sink over 90mA of current at a total supply of 5V."
part C pins: 10 OUT C (out) "Amplifier Output. Swings rail-to-rail and can typically source/sink over 90mA of current at a total supply of 5V.", 11 -IN C (in) "Inverting Input of Amplifier. Input range from V- to V+.", 12 +IN C (in) "Non-Inverting Input of Amplifier. Input range from V- to V+."
part D pins: 14 +IN D (in) "Non-Inverting Input of Amplifier. Input range from V- to V+.", 15 -IN D (in) "Inverting Input of Amplifier. Input range from V- to V+.", 16 OUT D (out) "Amplifier Output. Swings rail-to-rail and can typically source/sink over 90mA of current at a total supply of 5V."
part E pins: 4 V+ (power) "Positive Supply Voltage. Total supply voltage ranges from 2.5V to 5.25V.", 8 NC, 9 NC, 13 V- (power) "Negative Supply Voltage. Typically 0V. This can be made a negative voltage as long as 2.5V =< (V+ - V-) =< 5.25V."

## LTC6254HMS#TRPBF
designator U?
Quad Channel, Power Efficient Operational Amplifier, RRIO, 720 MHz Typical GBW, 280 V/us Typical SR, 2.5 to 5.25 V, 16-Pin SOP (MS16), High Temperature / Automotive, Pb-Free, Reel; Linear Technology Part Number: LTC6254; Manufacturer: Linear Technology; PartNumber: LTC6254HMS#TRPBF; Channels (#): 4; GBW (MHz) Typical: 720; Is (mA) Typical: 3.3; SR (V/us) Typical: 280; Vos (mV) Typical: 0.05; Vs Max (V): 5.25; Vs Min (V): 2.5; DatasheetVersion: Rev. C; PackageVersion: Rev Ø; PackageReference: LT-MS-16; PackageDescription: 16-Lead Plastic MSOP, Body 4.04 x 3.00 mm, Pitch 0.50 mm; Supplier 1: Digi-Key; Supplier Part Number 1: LTC6254HMS#TRPBF-ND; Packing: Reel; RoHS: Pb-Free; Type: VFB; Mounting Technology: Surface Mount; ComponentLink1Description: Manufacturer URL; ComponentLink1URL: http://www.linear.com/; ComponentLink2Description: Datasheet; ComponentLink2URL: http://cds.linear.com/docs/en/datasheet/625234fc.pdf; ComponentLink3Description: Package Specification; ComponentLink3URL: http://cds.linear.com/docs/en/packaging/MSOP_16_05-08-1669.pdf
footprint LT-MS-16_N (SOP, 16-Leads, Body 4.04x3.00mm, Pitch 0.50mm, IPC Medium Density)
footprint LT-MS-16_L (SOP, 16-Leads, Body 4.04x3.00mm, Pitch 0.50mm, IPC High Density)
footprint LT-MS-16_M (SOP, 16-Leads, Body 4.04x3.00mm, Pitch 0.50mm, IPC Low Density)
part A pins: 1 OUT A (out) "Amplifier Output. Swings rail-to-rail and can typically source/sink over 90mA of current at a total supply of 5V.", 2 -IN A (in) "Inverting Input of Amplifier. Input range from V- to V+.", 3 +IN A (in) "Non-Inverting Input of Amplifier. Input range from V- to V+."
part B pins: 5 +IN B (in) "Non-Inverting Input of Amplifier. Input range from V- to V+.", 6 -IN B (in) "Inverting Input of Amplifier. Input range from V- to V+.", 7 OUT B (out) "Amplifier Output. Swings rail-to-rail and can typically source/sink over 90mA of current at a total supply of 5V."
part C pins: 10 OUT C (out) "Amplifier Output. Swings rail-to-rail and can typically source/sink over 90mA of current at a total supply of 5V.", 11 -IN C (in) "Inverting Input of Amplifier. Input range from V- to V+.", 12 +IN C (in) "Non-Inverting Input of Amplifier. Input range from V- to V+."
part D pins: 14 +IN D (in) "Non-Inverting Input of Amplifier. Input range from V- to V+.", 15 -IN D (in) "Inverting Input of Amplifier. Input range from V- to V+.", 16 OUT D (out) "Amplifier Output. Swings rail-to-rail and can typically source/sink over 90mA of current at a total supply of 5V."
part E pins: 4 V+ (power) "Positive Supply Voltage. Total supply voltage ranges from 2.5V to 5.25V.", 8 NC, 9 NC, 13 V- (power) "Negative Supply Voltage. Typically 0V. This can be made a negative voltage as long as 2.5V =< (V+ - V-) =< 5.25V."

## LTC6254IMS#PBF
designator U?
Quad Channel, Power Efficient Operational Amplifier, RRIO, 720 MHz Typical GBW, 280 V/us Typical SR, 2.5 to 5.25 V, 16-Pin SOP (MS16), Industrial, Pb-Free; Linear Technology Part Number: LTC6254; Manufacturer: Linear Technology; PartNumber: LTC6254IMS#PBF; Channels (#): 4; GBW (MHz) Typical: 720; Is (mA) Typical: 3.3; SR (V/us) Typical: 280; Vos (mV) Typical: 0.05; Vs Max (V): 5.25; Vs Min (V): 2.5; DatasheetVersion: Rev. C; PackageVersion: Rev Ø; PackageReference: LT-MS-16; PackageDescription: 16-Lead Plastic MSOP, Body 4.04 x 3.00 mm, Pitch 0.50 mm; Supplier 1: Digi-Key; Supplier Part Number 1: LTC6254IMS#PBF-ND; RoHS: Pb-Free; Type: VFB; Mounting Technology: Surface Mount; ComponentLink1Description: Manufacturer URL; ComponentLink1URL: http://www.linear.com/; ComponentLink2Description: Datasheet; ComponentLink2URL: http://cds.linear.com/docs/en/datasheet/625234fc.pdf; ComponentLink3Description: Package Specification; ComponentLink3URL: http://cds.linear.com/docs/en/packaging/MSOP_16_05-08-1669.pdf
footprint LT-MS-16_N (SOP, 16-Leads, Body 4.04x3.00mm, Pitch 0.50mm, IPC Medium Density)
footprint LT-MS-16_L (SOP, 16-Leads, Body 4.04x3.00mm, Pitch 0.50mm, IPC High Density)
footprint LT-MS-16_M (SOP, 16-Leads, Body 4.04x3.00mm, Pitch 0.50mm, IPC Low Density)
part A pins: 1 OUT A (out) "Amplifier Output. Swings rail-to-rail and can typically source/sink over 90mA of current at a total supply of 5V.", 2 -IN A (in) "Inverting Input of Amplifier. Input range from V- to V+.", 3 +IN A (in) "Non-Inverting Input of Amplifier. Input range from V- to V+."
part B pins: 5 +IN B (in) "Non-Inverting Input of Amplifier. Input range from V- to V+.", 6 -IN B (in) "Inverting Input of Amplifier. Input range from V- to V+.", 7 OUT B (out) "Amplifier Output. Swings rail-to-rail and can typically source/sink over 90mA of current at a total supply of 5V."
part C pins: 10 OUT C (out) "Amplifier Output. Swings rail-to-rail and can typically source/sink over 90mA of current at a total supply of 5V.", 11 -IN C (in) "Inverting Input of Amplifier. Input range from V- to V+.", 12 +IN C (in) "Non-Inverting Input of Amplifier. Input range from V- to V+."
part D pins: 14 +IN D (in) "Non-Inverting Input of Amplifier. Input range from V- to V+.", 15 -IN D (in) "Inverting Input of Amplifier. Input range from V- to V+.", 16 OUT D (out) "Amplifier Output. Swings rail-to-rail and can typically source/sink over 90mA of current at a total supply of 5V."
part E pins: 4 V+ (power) "Positive Supply Voltage. Total supply voltage ranges from 2.5V to 5.25V.", 8 NC, 9 NC, 13 V- (power) "Negative Supply Voltage. Typically 0V. This can be made a negative voltage as long as 2.5V =< (V+ - V-) =< 5.25V."

## LTC6254IMS#TRPBF
designator U?
Quad Channel, Power Efficient Operational Amplifier, RRIO, 720 MHz Typical GBW, 280 V/us Typical SR, 2.5 to 5.25 V, 16-Pin SOP (MS16), Industrial, Pb-Free, Reel; Linear Technology Part Number: LTC6254; Manufacturer: Linear Technology; PartNumber: LTC6254IMS#TRPBF; Channels (#): 4; GBW (MHz) Typical: 720; Is (mA) Typical: 3.3; SR (V/us) Typical: 280; Vos (mV) Typical: 0.05; Vs Max (V): 5.25; Vs Min (V): 2.5; DatasheetVersion: Rev. C; PackageVersion: Rev Ø; PackageReference: LT-MS-16; PackageDescription: 16-Lead Plastic MSOP, Body 4.04 x 3.00 mm, Pitch 0.50 mm; Supplier 1: Digi-Key; Supplier Part Number 1: LTC6254IMS#TRPBF-ND; Packing: Reel; RoHS: Pb-Free; Type: VFB; Mounting Technology: Surface Mount; ComponentLink1Description: Manufacturer URL; ComponentLink1URL: http://www.linear.com/; ComponentLink2Description: Datasheet; ComponentLink2URL: http://cds.linear.com/docs/en/datasheet/625234fc.pdf; ComponentLink3Description: Package Specification; ComponentLink3URL: http://cds.linear.com/docs/en/packaging/MSOP_16_05-08-1669.pdf
footprint LT-MS-16_N (SOP, 16-Leads, Body 4.04x3.00mm, Pitch 0.50mm, IPC Medium Density)
footprint LT-MS-16_L (SOP, 16-Leads, Body 4.04x3.00mm, Pitch 0.50mm, IPC High Density)
footprint LT-MS-16_M (SOP, 16-Leads, Body 4.04x3.00mm, Pitch 0.50mm, IPC Low Density)
part A pins: 1 OUT A (out) "Amplifier Output. Swings rail-to-rail and can typically source/sink over 90mA of current at a total supply of 5V.", 2 -IN A (in) "Inverting Input of Amplifier. Input range from V- to V+.", 3 +IN A (in) "Non-Inverting Input of Amplifier. Input range from V- to V+."
part B pins: 5 +IN B (in) "Non-Inverting Input of Amplifier. Input range from V- to V+.", 6 -IN B (in) "Inverting Input of Amplifier. Input range from V- to V+.", 7 OUT B (out) "Amplifier Output. Swings rail-to-rail and can typically source/sink over 90mA of current at a total supply of 5V."
part C pins: 10 OUT C (out) "Amplifier Output. Swings rail-to-rail and can typically source/sink over 90mA of current at a total supply of 5V.", 11 -IN C (in) "Inverting Input of Amplifier. Input range from V- to V+.", 12 +IN C (in) "Non-Inverting Input of Amplifier. Input range from V- to V+."
part D pins: 14 +IN D (in) "Non-Inverting Input of Amplifier. Input range from V- to V+.", 15 -IN D (in) "Inverting Input of Amplifier. Input range from V- to V+.", 16 OUT D (out) "Amplifier Output. Swings rail-to-rail and can typically source/sink over 90mA of current at a total supply of 5V."
part E pins: 4 V+ (power) "Positive Supply Voltage. Total supply voltage ranges from 2.5V to 5.25V.", 8 NC, 9 NC, 13 V- (power) "Negative Supply Voltage. Typically 0V. This can be made a negative voltage as long as 2.5V =< (V+ - V-) =< 5.25V."

## LTC6255CS6#PBF
designator U?
Single Channel, Power Efficient Operational Amplifier, RRIO, 6.5 MHz Typical GBW, 1.8 V/us Typical SR, 1.8 to 5.25 V, 6-Pin SOT23 (S6-6), Commercial, Pb-Free; Linear Technology Part Number: LTC6255; Manufacturer: Linear Technology; PartNumber: LTC6255CS6#PBF; Channels (#): 1; GBW (MHz) Typical: 6.5; Is (mA) Typical: 0.06; SR (V/us) Typical: 1.8; Vos (mV) Typical: 0.1; Vs Max (V): 5.25; DatasheetVersion: Rev. B; PackageReference: LT-S6-6-TSOT-23; PackageDescription: 6-Pin Plastic TSOT-23, Body 2.9 x 1.63 mm, Pitch 0.95 mm; Supplier 1: Farnell; Supplier Part Number 1: 1833784; Supplier 2: Newark; Supplier Part Number 2: 79R3060; RoHS: Pb-Free; Type: VFB; Vs Min (V): 1.8; Mounting Technology: Surface Mount; Code_JEDEC: MO-193; ComponentLink1Description: Manufacturer URL; ComponentLink1URL: http://www.linear.com/; ComponentLink2Description: Datasheet; ComponentLink2URL: http://cds.linear.com/docs/en/datasheet/625567fb.pdf; ComponentLink3Description: Package Specification; ComponentLink3URL: http://cds.linear.com/docs/en/packaging/SOT_6_05-08-1636.pdf
footprint LT-S6-6-TSOT-23_N (SOT23, 6-Leads, Body 2.90x1.63mm, Pitch 0.95mm, IPC Medium Density)
footprint LT-S6-6-TSOT-23_L (SOT23, 6-Leads, Body 2.90x1.63mm, Pitch 0.95mm, IPC High Density)
footprint LT-S6-6-TSOT-23_M (SOT23, 6-Leads, Body 2.90x1.63mm, Pitch 0.95mm, IPC Low Density)
pins: 1 OUT (hiz), 2 V- (power), 3 +IN (in), 4 -IN (in), 5 ~{SHDN} (in), 6 V+ (power)

## LTC6255CS6#TRMPBF
designator U?
Single Channel, Power Efficient Operational Amplifier, RRIO, 6.5 MHz Typical GBW, 1.8 V/us Typical SR, 1.8 to 5.25 V, 6-Pin SOT23 (S6-6), Commercial, Pb-Free, Mini Reel; Linear Technology Part Number: LTC6255; Manufacturer: Linear Technology; PartNumber: LTC6255CS6#TRMPBF; Channels (#): 1; GBW (MHz) Typical: 6.5; Is (mA) Typical: 0.06; SR (V/us) Typical: 1.8; Vos (mV) Typical: 0.1; Vs Max (V): 5.25; DatasheetVersion: Rev. B; PackageReference: LT-S6-6-TSOT-23; PackageDescription: 6-Pin Plastic TSOT-23, Body 2.9 x 1.63 mm, Pitch 0.95 mm; Supplier 1: Digi-Key; Supplier Part Number 1: LTC6255CS6#TRMPBFTR-ND; Supplier 2: Digi-Key; Supplier Part Number 2: LTC6255CS6#TRMPBFCT-ND; Supplier 3: Digi-Key; Supplier Part Number 3: LTC6255CS6#TRMPBFDKR-ND; Packing: Mini Reel; RoHS: Pb-Free; Type: VFB; Vs Min (V): 1.8; Mounting Technology: Surface Mount; Code_JEDEC: MO-193; ComponentLink1Description: Manufacturer URL; ComponentLink1URL: http://www.linear.com/; ComponentLink2Description: Datasheet; ComponentLink2URL: http://cds.linear.com/docs/en/datasheet/625567fb.pdf; ComponentLink3Description: Package Specification; ComponentLink3URL: http://cds.linear.com/docs/en/packaging/SOT_6_05-08-1636.pdf
footprint LT-S6-6-TSOT-23_N (SOT23, 6-Leads, Body 2.90x1.63mm, Pitch 0.95mm, IPC Medium Density)
footprint LT-S6-6-TSOT-23_L (SOT23, 6-Leads, Body 2.90x1.63mm, Pitch 0.95mm, IPC High Density)
footprint LT-S6-6-TSOT-23_M (SOT23, 6-Leads, Body 2.90x1.63mm, Pitch 0.95mm, IPC Low Density)
pins: 1 OUT (hiz), 2 V- (power), 3 +IN (in), 4 -IN (in), 5 ~{SHDN} (in), 6 V+ (power)

## LTC6255CS6#TRPBF
designator U?
Single Channel, Power Efficient Operational Amplifier, RRIO, 6.5 MHz Typical GBW, 1.8 V/us Typical SR, 1.8 to 5.25 V, 6-Pin SOT23 (S6-6), Commercial, Pb-Free, Reel; Linear Technology Part Number: LTC6255; Manufacturer: Linear Technology; PartNumber: LTC6255CS6#TRPBF; Channels (#): 1; GBW (MHz) Typical: 6.5; Is (mA) Typical: 0.06; SR (V/us) Typical: 1.8; Vos (mV) Typical: 0.1; Vs Max (V): 5.25; DatasheetVersion: Rev. B; PackageReference: LT-S6-6-TSOT-23; PackageDescription: 6-Pin Plastic TSOT-23, Body 2.9 x 1.63 mm, Pitch 0.95 mm; Supplier 1: Digi-Key; Supplier Part Number 1: LTC6255CS6#TRPBF-ND; Packing: Reel; RoHS: Pb-Free; Type: VFB; Vs Min (V): 1.8; Mounting Technology: Surface Mount; Code_JEDEC: MO-193; ComponentLink1Description: Manufacturer URL; ComponentLink1URL: http://www.linear.com/; ComponentLink2Description: Datasheet; ComponentLink2URL: http://cds.linear.com/docs/en/datasheet/625567fb.pdf; ComponentLink3Description: Package Specification; ComponentLink3URL: http://cds.linear.com/docs/en/packaging/SOT_6_05-08-1636.pdf
footprint LT-S6-6-TSOT-23_N (SOT23, 6-Leads, Body 2.90x1.63mm, Pitch 0.95mm, IPC Medium Density)
footprint LT-S6-6-TSOT-23_L (SOT23, 6-Leads, Body 2.90x1.63mm, Pitch 0.95mm, IPC High Density)
footprint LT-S6-6-TSOT-23_M (SOT23, 6-Leads, Body 2.90x1.63mm, Pitch 0.95mm, IPC Low Density)
pins: 1 OUT (hiz), 2 V- (power), 3 +IN (in), 4 -IN (in), 5 ~{SHDN} (in), 6 V+ (power)

## LTC6255HS6#PBF
designator U?
Single Channel, Power Efficient Operational Amplifier, RRIO, 6.5 MHz Typical GBW, 1.8 V/us Typical SR, 1.8 to 5.25 V, 6-Pin SOT23 (S6-6), High Temperature / Automotive, Pb-Free; Linear Technology Part Number: LTC6255; Manufacturer: Linear Technology; PartNumber: LTC6255HS6#PBF; Channels (#): 1; GBW (MHz) Typical: 6.5; Is (mA) Typical: 0.06; SR (V/us) Typical: 1.8; Vos (mV) Typical: 0.1; Vs Max (V): 5.25; DatasheetVersion: Rev. B; PackageReference: LT-S6-6-TSOT-23; PackageDescription: 6-Pin Plastic TSOT-23, Body 2.9 x 1.63 mm, Pitch 0.95 mm; Supplier 1: Newark; Supplier Part Number 1: 78T3472; RoHS: Pb-Free; Type: VFB; Vs Min (V): 1.8; Mounting Technology: Surface Mount; Code_JEDEC: MO-193; ComponentLink1Description: Manufacturer URL; ComponentLink1URL: http://www.linear.com/; ComponentLink2Description: Datasheet; ComponentLink2URL: http://cds.linear.com/docs/en/datasheet/625567fb.pdf; ComponentLink3Description: Package Specification; ComponentLink3URL: http://cds.linear.com/docs/en/packaging/SOT_6_05-08-1636.pdf
footprint LT-S6-6-TSOT-23_N (SOT23, 6-Leads, Body 2.90x1.63mm, Pitch 0.95mm, IPC Medium Density)
footprint LT-S6-6-TSOT-23_L (SOT23, 6-Leads, Body 2.90x1.63mm, Pitch 0.95mm, IPC High Density)
footprint LT-S6-6-TSOT-23_M (SOT23, 6-Leads, Body 2.90x1.63mm, Pitch 0.95mm, IPC Low Density)
pins: 1 OUT (hiz), 2 V- (power), 3 +IN (in), 4 -IN (in), 5 ~{SHDN} (in), 6 V+ (power)

## LTC6255HS6#TRMPBF
designator U?
Single Channel, Power Efficient Operational Amplifier, RRIO, 6.5 MHz Typical GBW, 1.8 V/us Typical SR, 1.8 to 5.25 V, 6-Pin SOT23 (S6-6), High Temperature / Automotive, Pb-Free, Mini Reel; Linear Technology Part Number: LTC6255; Manufacturer: Linear Technology; PartNumber: LTC6255HS6#TRMPBF; Channels (#): 1; GBW (MHz) Typical: 6.5; Is (mA) Typical: 0.06; SR (V/us) Typical: 1.8; Vos (mV) Typical: 0.1; Vs Max (V): 5.25; DatasheetVersion: Rev. B; PackageReference: LT-S6-6-TSOT-23; PackageDescription: 6-Pin Plastic TSOT-23, Body 2.9 x 1.63 mm, Pitch 0.95 mm; Supplier 1: Digi-Key; Supplier Part Number 1: LTC6255HS6#TRMPBF-ND; Supplier 2: Newark; Supplier Part Number 2: 78R8377; Packing: Mini Reel; RoHS: Pb-Free; Type: VFB; Vs Min (V): 1.8; Mounting Technology: Surface Mount; Code_JEDEC: MO-193; ComponentLink1Description: Manufacturer URL; ComponentLink1URL: http://www.linear.com/; ComponentLink2Description: Datasheet; ComponentLink2URL: http://cds.linear.com/docs/en/datasheet/625567fb.pdf; ComponentLink3Description: Package Specification; ComponentLink3URL: http://cds.linear.com/docs/en/packaging/SOT_6_05-08-1636.pdf
footprint LT-S6-6-TSOT-23_N (SOT23, 6-Leads, Body 2.90x1.63mm, Pitch 0.95mm, IPC Medium Density)
footprint LT-S6-6-TSOT-23_L (SOT23, 6-Leads, Body 2.90x1.63mm, Pitch 0.95mm, IPC High Density)
footprint LT-S6-6-TSOT-23_M (SOT23, 6-Leads, Body 2.90x1.63mm, Pitch 0.95mm, IPC Low Density)
pins: 1 OUT (hiz), 2 V- (power), 3 +IN (in), 4 -IN (in), 5 ~{SHDN} (in), 6 V+ (power)